# EAGLE library part MB1-130-MODULE (library samtec)
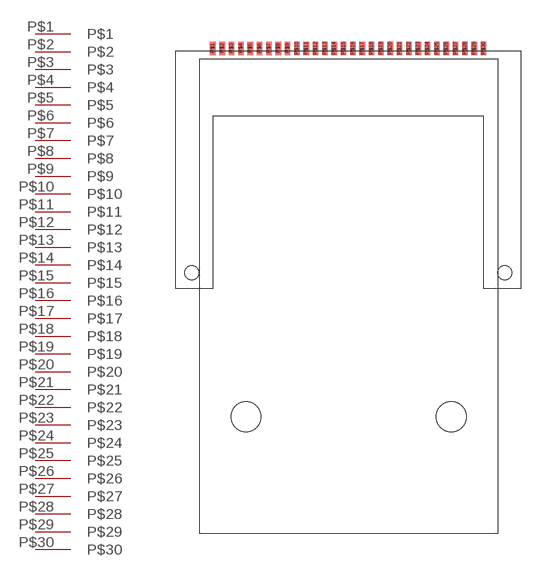
[diagram p5: symbol with the pads of MB1-130; footprint MB1-130]

Designator prefix -

## MB1-130-MODULE  [MB1-130]
P$1  P$1
P$2  P$2
P$3  P$3
P$4  P$4
P$5  P$5
P$6  P$6
P$7  P$7
P$8  P$8
P$9  P$9
P$10  P$10
P$11  P$11
P$12  P$12
P$13  P$13
P$14  P$14
P$15  P$15
P$16  P$16
P$17  P$17
P$18  P$18
P$19  P$19
P$20  P$20
P$21  P$21
P$22  P$22
P$23  P$23
P$24  P$24
P$25  P$25
P$26  P$26
P$27  P$27
P$28  P$28
P$29  P$29
P$30  P$30

## Footprint MB1-130 (pad centres in mm)
smd 0.61 x 1.45: P$1 -19.5,11.97; P$2 -18.5,11.97; P$3 -17.5,11.97; P$4 -16.5,11.97; P$5 -15.5,11.97; P$6 -14.5,11.97; P$7 -13.5,11.97; P$8 -12.5,11.97; P$9 -11.5,11.97; P$10 -10.5,11.97; P$11 -9.5,11.97; P$12 -8.5,11.97; P$13 -7.5,11.97; P$14 -6.5,11.97; P$15 -5.5,11.97; P$16 -4.5,11.97; P$17 -3.5,11.97; P$18 -2.5,11.97; P$19 -1.5,11.97; P$20 -0.5,11.97; P$21 0.5,11.97; P$22 1.5,11.97; P$23 2.5,11.97; P$24 3.5,11.97; P$25 4.5,11.97; P$26 5.5,11.97; P$27 6.5,11.97; P$28 7.5,11.97; P$29 8.5,11.97; P$30 9.5,11.97
hole 1.5 at -21.75,-12.05
hole 1.5 at 11.75,-12.05
hole 3.2 at -15.955,-27.505
hole 3.2 at 6.045,-27.505